# Altium footprint library NCP16.PcbLib: 1 footprints
Each footprint in its own frame and in the unit in brackets; x right, y up, seen from the top. Pads: shape width x height; smd on the part's side, far side on the other; paste and mask are expansions set on the pad; w line width, h text height; cw(c..) or ccw(c..) is an arc to the next point about the centre after c.
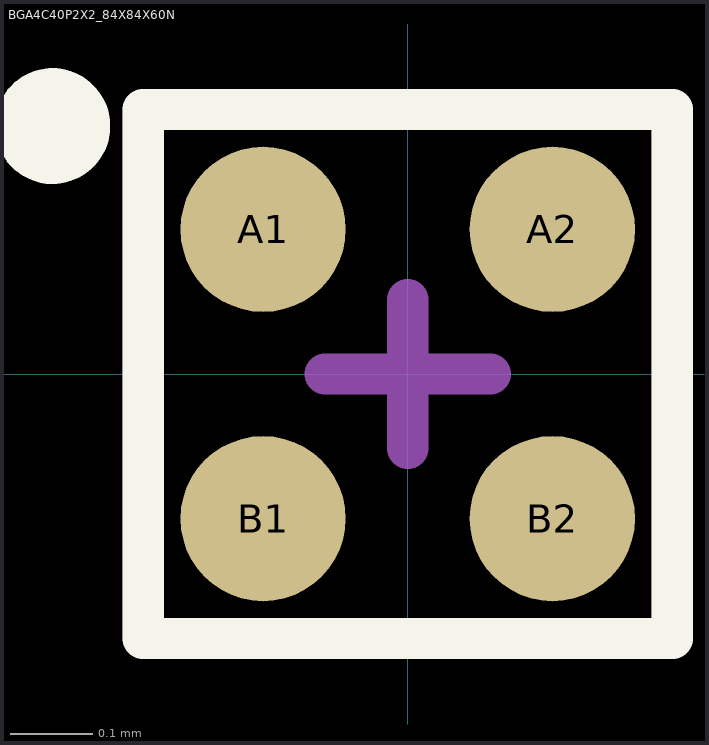
[diagram p0: the footprint, top view; thin cyan lines are the x and y axes]

## BGA4C40P2X2_84X84X60N [mm]
pads (4):
  round 0.2 smd: A1(-0.175,0.175) A2(0.175,0.175) B1(-0.175,-0.175) B2(0.175,-0.175)
Top Overlay:
  circle w0.1: c-0.43,0.3 r0.02
  lines w0.05: -0.32,-0.32 0.32,-0.32 0.32,0.32 -0.32,0.32 -0.32,-0.32
Courtyard Top:
  lines w0.05: -0.1,0 0.1,0 ; 0,-0.09 0,0.09 ; -0.32,-0.32 0.32,-0.32 0.32,0.32 -0.32,0.32 -0.32,-0.32
3D body: height 0.33, standoff 0.33, extent -0.18,0.17 -0.12,0.23
3D body: height 0.33, standoff 0, extent -0.325,-0.325 0.325,0.325